# Altium footprint library XHP-2.PcbLib: 1 footprints
Each footprint in its own frame and in the unit in brackets; x right, y up, seen from the top. Pads: shape width x height; smd on the part's side, far side on the other; paste and mask are expansions set on the pad; w line width, h text height; cw(c..) or ccw(c..) is an arc to the next point about the centre after c.
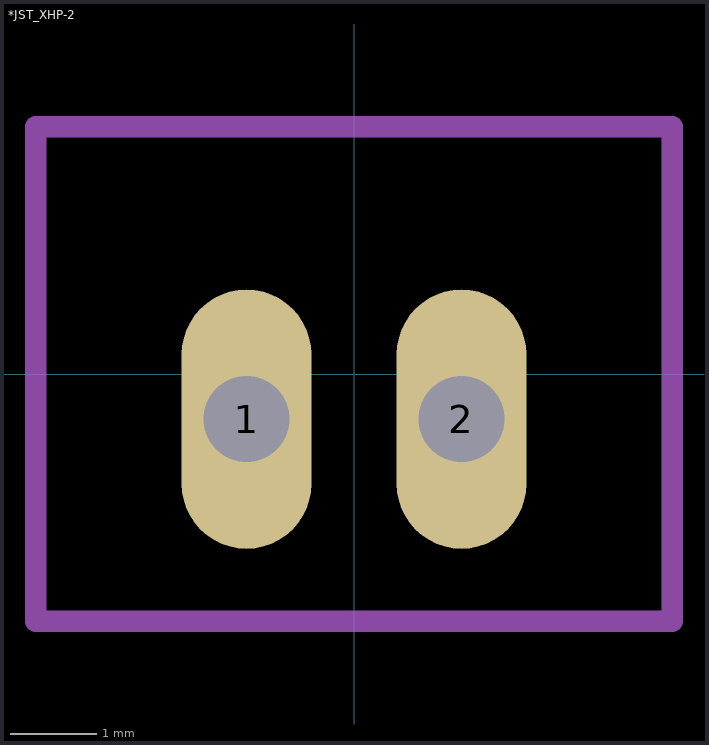
[diagram p0: the footprint, top view; thin cyan lines are the x and y axes]

## *JST_XHP-2 [mm]
pads (2):
  oval 1.508x3.016 hole 1: 1(-1.25,-0.525) 2(1.25,-0.525)
Mechanical 4:
  lines w0.254: -3.7,-2.875 -3.7,2.875 ; -3.7,-2.875 3.7,-2.875 ; -3.7,-2.875 -3.7,2.875 ; -3.7,-2.875 3.7,-2.875 ; -3.7,2.875 3.7,2.875 ; -3.7,2.875 3.7,2.875 ; 3.7,-2.875 3.7,2.875 ; 3.7,-2.875 3.7,2.875